# Altium schematic symbol library 150060YS75000.SchLib: 1 symbol
Pins are listed as number, name and electrical type; pins without a type are passive.

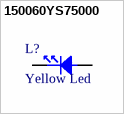
[diagram p0: symbol 150060YS75000]

## 150060YS75000
designator L?, comment Yellow Led
LED YELLOW CLEAR 0603 SMD; Manufacturer: Wurth Elektronik; Manufacturer Part Number: 150060YS75000; Manufacturer Lifecycle Status: ACTIVE; Dominant Wavelength: 590nm; Forward Current: 100mA; Forward Voltage: 2V; Lens Style: Clear, Rectangular; Luminous Intensity: 120mcd; Max Junction Temperature (Tj): 95°C; Max Reverse Voltage (DC): 5V; Peak Wavelength: 595nm; Power Dissipation: 72mW; Test Current: 20mA; Viewing Angle: 140°; YEOL: 1 = Estimated lifetime > 10 years; Supplier: DigiKey; Supplier Part Number: 732-4981-1-ND; RoHS: Compliant; Category: LEDs; Stock: 129880; Pricing: 1=0.15, 50=0.142, 100=0.1239 (USD); Case/Package: 0603; Case Code (Imperial): 0603; Case Code (Metric): 1608; Color: Yellow; Height: 700µm; Length: 1.6mm; Lifecycle Status: Production; Max Operating Temperature: 85°C; Min Operating Temperature: -40°C; Mounting Technology: Surface Mount; Packaging: Tape and Reel; REACH SVHC: Unknown; Reverse Voltage: 5V; Wavelength: 590nm; Width: 800µm; ComponentLink1URL: https://datasheet.octopart.com:443/150060YS75000-W%C3%BCrth-Elektronik-datasheet-140603452.pdf?src-supplier=Newark; ComponentLink1Description: https://datasheet.octopart.com:443/150060YS75000-W%C3%BCrth-Elektronik-datasheet-140603452.pdf?src-supplier=Newark; ComponentLink2URL: https://datasheet.octopart.com:443/150060YS75000-W%C3%BCrth-Elektronik-datasheet-41196441.pdf?src-supplier=Newark; ComponentLink2Description: https://datasheet.octopart.com:443/150060YS75000-W%C3%BCrth-Elektronik-datasheet-41196441.pdf?src-supplier=Newark; ComponentLink3URL: https://datasheet.octopart.com:443/150060YS75000-W%C3%BCrth-Elektronik-datasheet-15976795.pdf?src-supplier=Upverter; ComponentLink3Description: https://datasheet.octopart.com:443/150060YS75000-W%C3%BCrth-Elektronik-datasheet-15976795.pdf?src-supplier=Upverter
footprint WL-SMCW_0603-Y
footprint WL-SMCW_0603-Y
footprint WL-SMCW_0603-Y
pins: A, C